# Altium footprint library JST-XH.PcbLib: 31 footprints (part 1 of 2)
Each footprint in its own frame and in the unit in brackets; x right, y up, seen from the top. Pads: shape width x height; smd on the part's side, far side on the other; paste and mask are expansions set on the pad; w line width, h text height; cw(c..) or ccw(c..) is an arc to the next point about the centre after c.
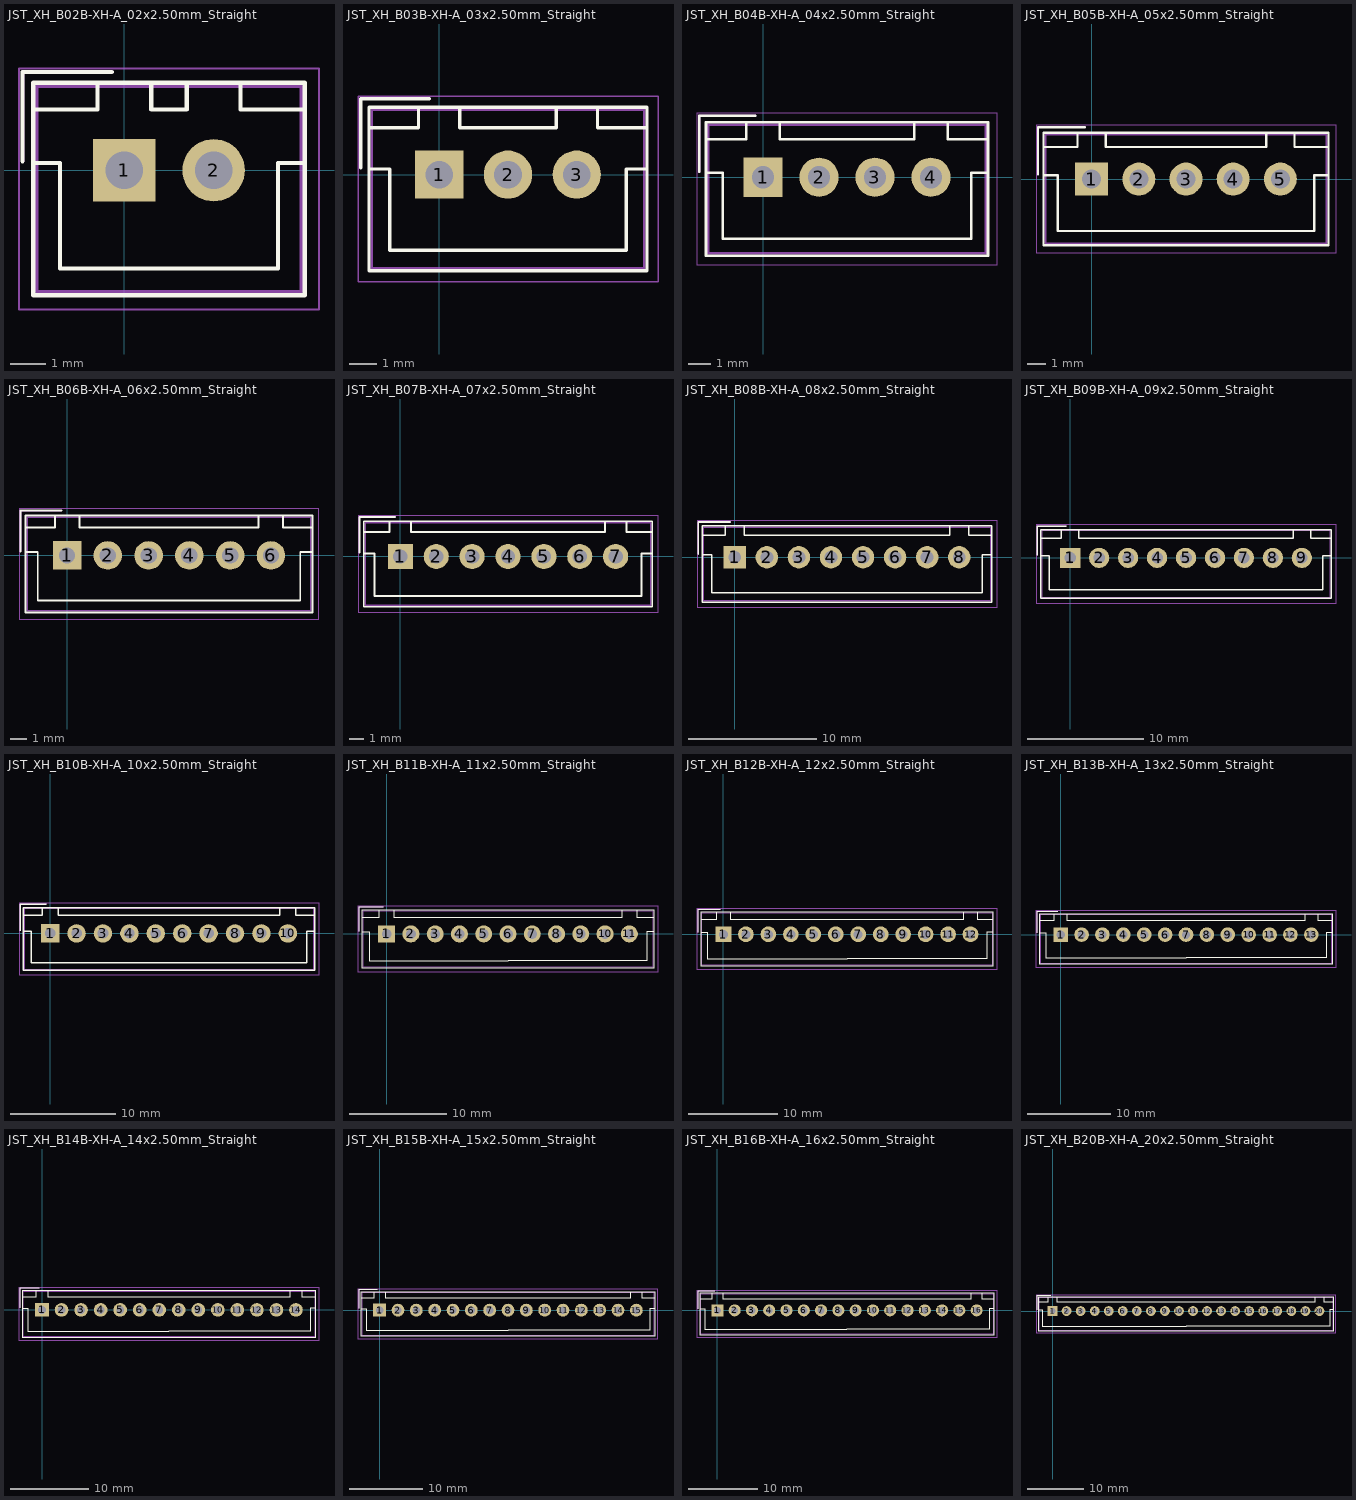
[diagram p0: the footprints below, top view; thin cyan lines are the x and y axes]

## JST_XH_B02B-XH-A_02x2.50mm_Straight [mm]
pads (2):
  rect 1.75x1.75 hole 1.05: 1(0,0)
  round 1.75 hole 1.05: 2(2.5,0)
F.SilkS:
  lines w0.12: -2.85,0.25 -2.85,2.75 -0.35,2.75 ; -2.55,0.2 -1.8,0.2 -1.8,-2.75 1.25,-2.75 4.3,-2.75 4.3,0.2 5.05,0.2 ; -2.55,2.45 -2.55,-3.5 5.05,-3.5 5.05,2.45 ; -2.55,2.45 5.05,2.45 ; -2.55,2.45 -2.55,1.7 -0.75,1.7 -0.75,2.45 -2.55,2.45 ; 5.05,2.45 5.05,1.7 3.25,1.7 3.25,2.45 5.05,2.45 ; 0.75,1.7 0.75,2.45 1.75,2.45 1.75,1.7 0.75,1.7
F.CrtYd:
  lines w0.05: -2.95,-3.9 -2.95,2.85 5.45,2.85 5.45,-3.9 -2.95,-3.9
F.Fab:
  lines w0.1: -2.85,0.25 -2.85,2.75 -0.35,2.75 ; -2.45,-3.4 -2.45,2.35 4.95,2.35 4.95,-3.4 -2.45,-3.4
  text "'.Designator'" at -0.189,-2.898 h1

## JST_XH_B03B-XH-A_03x2.50mm_Straight [mm]
pads (3):
  rect 1.75x1.75 hole 1: 1(0,0)
  round 1.75 hole 1: 2(2.5,0) 3(5,0)
F.SilkS:
  lines w0.12: -2.85,0.25 -2.85,2.75 -0.35,2.75 ; -2.55,0.2 -1.8,0.2 -1.8,-2.75 2.5,-2.75 6.8,-2.75 6.8,0.2 7.55,0.2 ; -2.55,2.45 -2.55,-3.5 7.55,-3.5 7.55,2.45 ; -2.55,2.45 7.55,2.45 ; -2.55,2.45 -2.55,1.7 -0.75,1.7 -0.75,2.45 -2.55,2.45 ; 7.55,2.45 7.55,1.7 5.75,1.7 5.75,2.45 7.55,2.45 ; 0.75,1.7 0.75,2.45 4.25,2.45 4.25,1.7 0.75,1.7
F.CrtYd:
  lines w0.05: -2.95,-3.9 -2.95,2.85 7.95,2.85 7.95,-3.9 -2.95,-3.9
F.Fab:
  lines w0.1: -2.85,0.25 -2.85,2.75 -0.35,2.75 ; -2.45,-3.4 -2.45,2.35 7.45,2.35 7.45,-3.4 -2.45,-3.4
  text "'.Designator'" at 1.061,-2.898 h1

## JST_XH_B04B-XH-A_04x2.50mm_Straight [mm]
pads (4):
  rect 1.75x1.75 hole 1: 1(0,0)
  round 1.75 hole 1: 2(2.5,0) 3(5,0) 4(7.5,0)
F.SilkS:
  lines w0.12: -2.85,0.25 -2.85,2.75 -0.35,2.75 ; -2.55,0.2 -1.8,0.2 -1.8,-2.75 3.75,-2.75 9.3,-2.75 9.3,0.2 10.05,0.2 ; -2.55,2.45 -2.55,-3.5 10.05,-3.5 10.05,2.45 ; -2.55,2.45 10.05,2.45 ; -2.55,2.45 -2.55,1.7 -0.75,1.7 -0.75,2.45 -2.55,2.45 ; 10.05,2.45 10.05,1.7 8.25,1.7 8.25,2.45 10.05,2.45 ; 0.75,1.7 0.75,2.45 6.75,2.45 6.75,1.7 0.75,1.7
F.CrtYd:
  lines w0.05: -2.95,-3.9 -2.95,2.85 10.45,2.85 10.45,-3.9 -2.95,-3.9
F.Fab:
  lines w0.1: -2.85,0.25 -2.85,2.75 -0.35,2.75 ; -2.45,-3.4 -2.45,2.35 9.95,2.35 9.95,-3.4 -2.45,-3.4
  text "'.Designator'" at 2.311,-2.898 h1

## JST_XH_B05B-XH-A_05x2.50mm_Straight [mm]
pads (5):
  rect 1.75x1.75 hole 1: 1(0,0)
  round 1.75 hole 1: 2(2.5,0) 3(5,0) 4(7.5,0) 5(10,0)
F.SilkS:
  lines w0.12: -2.85,0.25 -2.85,2.75 -0.35,2.75 ; -2.55,0.2 -1.8,0.2 -1.8,-2.75 5,-2.75 11.8,-2.75 11.8,0.2 12.55,0.2 ; -2.55,2.45 -2.55,-3.5 12.55,-3.5 12.55,2.45 ; -2.55,2.45 12.55,2.45 ; -2.55,2.45 -2.55,1.7 -0.75,1.7 -0.75,2.45 -2.55,2.45 ; 12.55,2.45 12.55,1.7 10.75,1.7 10.75,2.45 12.55,2.45 ; 0.75,1.7 0.75,2.45 9.25,2.45 9.25,1.7 0.75,1.7
F.CrtYd:
  lines w0.05: -2.95,-3.9 -2.95,2.85 12.95,2.85 12.95,-3.9 -2.95,-3.9
F.Fab:
  lines w0.1: -2.85,0.25 -2.85,2.75 -0.35,2.75 ; -2.45,-3.4 -2.45,2.35 12.45,2.35 12.45,-3.4 -2.45,-3.4
  text "'.Designator'" at 3.561,-2.898 h1

## JST_XH_B06B-XH-A_06x2.50mm_Straight [mm]
pads (6):
  rect 1.75x1.75 hole 1: 1(0,0)
  round 1.75 hole 1: 2(2.5,0) 3(5,0) 4(7.5,0) 5(10,0) 6(12.5,0)
F.SilkS:
  lines w0.12: -2.85,0.25 -2.85,2.75 -0.35,2.75 ; -2.55,0.2 -1.8,0.2 -1.8,-2.75 6.25,-2.75 14.3,-2.75 14.3,0.2 15.05,0.2 ; -2.55,2.45 -2.55,-3.5 15.05,-3.5 15.05,2.45 ; -2.55,2.45 15.05,2.45 ; -2.55,2.45 -2.55,1.7 -0.75,1.7 -0.75,2.45 -2.55,2.45 ; 15.05,2.45 15.05,1.7 13.25,1.7 13.25,2.45 15.05,2.45 ; 0.75,1.7 0.75,2.45 11.75,2.45 11.75,1.7 0.75,1.7
F.CrtYd:
  lines w0.05: -2.95,-3.9 -2.95,2.85 15.45,2.85 15.45,-3.9 -2.95,-3.9
F.Fab:
  lines w0.1: -2.85,0.25 -2.85,2.75 -0.35,2.75 ; -2.45,-3.4 -2.45,2.35 14.95,2.35 14.95,-3.4 -2.45,-3.4
  text "'.Designator'" at 4.811,-2.898 h1

## JST_XH_B07B-XH-A_07x2.50mm_Straight [mm]
pads (7):
  rect 1.75x1.75 hole 1: 1(0,0)
  round 1.75 hole 1: 2(2.5,0) 3(5,0) 4(7.5,0) 5(10,0) 6(12.5,0) 7(15,0)
F.SilkS:
  lines w0.12: -2.85,0.25 -2.85,2.75 -0.35,2.75 ; -2.55,0.2 -1.8,0.2 -1.8,-2.75 7.5,-2.75 16.8,-2.75 16.8,0.2 17.55,0.2 ; -2.55,2.45 -2.55,-3.5 17.55,-3.5 17.55,2.45 ; -2.55,2.45 17.55,2.45 ; -2.55,2.45 -2.55,1.7 -0.75,1.7 -0.75,2.45 -2.55,2.45 ; 17.55,2.45 17.55,1.7 15.75,1.7 15.75,2.45 17.55,2.45 ; 0.75,1.7 0.75,2.45 14.25,2.45 14.25,1.7 0.75,1.7
F.CrtYd:
  lines w0.05: -2.95,-3.9 -2.95,2.85 17.95,2.85 17.95,-3.9 -2.95,-3.9
F.Fab:
  lines w0.1: -2.85,0.25 -2.85,2.75 -0.35,2.75 ; -2.45,-3.4 -2.45,2.35 17.45,2.35 17.45,-3.4 -2.45,-3.4
  text "'.Designator'" at 6.061,-2.898 h1

## JST_XH_B08B-XH-A_08x2.50mm_Straight [mm]
pads (8):
  rect 1.75x1.75 hole 1: 1(0,0)
  round 1.75 hole 1: 2(2.5,0) 3(5,0) 4(7.5,0) 5(10,0) 6(12.5,0) 7(15,0) 8(17.5,0)
F.SilkS:
  lines w0.12: -2.85,0.25 -2.85,2.75 -0.35,2.75 ; -2.55,0.2 -1.8,0.2 -1.8,-2.75 8.75,-2.75 19.3,-2.75 19.3,0.2 20.05,0.2 ; -2.55,2.45 -2.55,-3.5 20.05,-3.5 20.05,2.45 ; -2.55,2.45 20.05,2.45 ; -2.55,2.45 -2.55,1.7 -0.75,1.7 -0.75,2.45 -2.55,2.45 ; 20.05,2.45 20.05,1.7 18.25,1.7 18.25,2.45 20.05,2.45 ; 0.75,1.7 0.75,2.45 16.75,2.45 16.75,1.7 0.75,1.7
F.CrtYd:
  lines w0.05: -2.95,-3.9 -2.95,2.85 20.45,2.85 20.45,-3.9 -2.95,-3.9
F.Fab:
  lines w0.1: -2.85,0.25 -2.85,2.75 -0.35,2.75 ; -2.45,-3.4 -2.45,2.35 19.95,2.35 19.95,-3.4 -2.45,-3.4
  text "'.Designator'" at 7.311,-2.898 h1

## JST_XH_B09B-XH-A_09x2.50mm_Straight [mm]
pads (9):
  rect 1.75x1.75 hole 1: 1(0,0)
  round 1.75 hole 1: 2(2.5,0) 3(5,0) 4(7.5,0) 5(10,0) 6(12.5,0) 7(15,0) 8(17.5,0) 9(20,0)
F.SilkS:
  lines w0.12: -2.85,0.25 -2.85,2.75 -0.35,2.75 ; -2.55,0.2 -1.8,0.2 -1.8,-2.75 10,-2.75 21.8,-2.75 21.8,0.2 22.55,0.2 ; -2.55,2.45 -2.55,-3.5 22.55,-3.5 22.55,2.45 ; -2.55,2.45 22.55,2.45 ; -2.55,2.45 -2.55,1.7 -0.75,1.7 -0.75,2.45 -2.55,2.45 ; 22.55,2.45 22.55,1.7 20.75,1.7 20.75,2.45 22.55,2.45 ; 0.75,1.7 0.75,2.45 19.25,2.45 19.25,1.7 0.75,1.7
F.CrtYd:
  lines w0.05: -2.95,-3.9 -2.95,2.85 22.95,2.85 22.95,-3.9 -2.95,-3.9
F.Fab:
  lines w0.1: -2.85,0.25 -2.85,2.75 -0.35,2.75 ; -2.45,-3.4 -2.45,2.35 22.45,2.35 22.45,-3.4 -2.45,-3.4
  text "'.Designator'" at 8.561,-2.898 h1

## JST_XH_B10B-XH-A_10x2.50mm_Straight [mm]
pads (10):
  rect 1.75x1.75 hole 1: 1(0,0)
  round 1.75 hole 1: 2(2.5,0) 3(5,0) 4(7.5,0) 5(10,0) 6(12.5,0) 7(15,0) 8(17.5,0) 9(20,0) 10(22.5,0)
F.SilkS:
  lines w0.12: -2.85,0.25 -2.85,2.75 -0.35,2.75 ; -2.55,0.2 -1.8,0.2 -1.8,-2.75 11.25,-2.75 24.3,-2.75 24.3,0.2 25.05,0.2 ; -2.55,2.45 -2.55,-3.5 25.05,-3.5 25.05,2.45 ; -2.55,2.45 25.05,2.45 ; -2.55,2.45 -2.55,1.7 -0.75,1.7 -0.75,2.45 -2.55,2.45 ; 25.05,2.45 25.05,1.7 23.25,1.7 23.25,2.45 25.05,2.45 ; 0.75,1.7 0.75,2.45 21.75,2.45 21.75,1.7 0.75,1.7
F.CrtYd:
  lines w0.05: -2.95,-3.9 -2.95,2.85 25.45,2.85 25.45,-3.9 -2.95,-3.9
F.Fab:
  lines w0.1: -2.85,0.25 -2.85,2.75 -0.35,2.75 ; -2.45,-3.4 -2.45,2.35 24.95,2.35 24.95,-3.4 -2.45,-3.4
  text "'.Designator'" at 9.811,-2.898 h1

## JST_XH_B11B-XH-A_11x2.50mm_Straight [mm]
pads (11):
  rect 1.75x1.75 hole 1: 1(0,0)
  round 1.75 hole 1: 2(2.5,0) 3(5,0) 4(7.5,0) 5(10,0) 6(12.5,0) 7(15,0) 8(17.5,0) 9(20,0) 10(22.5,0) 11(25,0)
F.SilkS:
  lines w0.12: -2.85,0.25 -2.85,2.75 -0.35,2.75 ; -2.55,0.2 -1.8,0.2 -1.8,-2.75 12.5,-2.75 26.8,-2.75 26.8,0.2 27.55,0.2 ; -2.55,2.45 -2.55,-3.5 27.55,-3.5 27.55,2.45 ; -2.55,2.45 27.55,2.45 ; -2.55,2.45 -2.55,1.7 -0.75,1.7 -0.75,2.45 -2.55,2.45 ; 27.55,2.45 27.55,1.7 25.75,1.7 25.75,2.45 27.55,2.45 ; 0.75,1.7 0.75,2.45 24.25,2.45 24.25,1.7 0.75,1.7
F.CrtYd:
  lines w0.05: -2.95,-3.9 -2.95,2.85 27.95,2.85 27.95,-3.9 -2.95,-3.9
F.Fab:
  lines w0.1: -2.85,0.25 -2.85,2.75 -0.35,2.75 ; -2.45,-3.4 -2.45,2.35 27.45,2.35 27.45,-3.4 -2.45,-3.4
  text "'.Designator'" at 11.061,-2.898 h1

## JST_XH_B12B-XH-A_12x2.50mm_Straight [mm]
pads (12):
  rect 1.75x1.75 hole 1: 1(0,0)
  round 1.75 hole 1: 2(2.5,0) 3(5,0) 4(7.5,0) 5(10,0) 6(12.5,0) 7(15,0) 8(17.5,0) 9(20,0) 10(22.5,0) 11(25,0) 12(27.5,0)
F.SilkS:
  lines w0.12: -2.85,0.25 -2.85,2.75 -0.35,2.75 ; -2.55,0.2 -1.8,0.2 -1.8,-2.75 13.75,-2.75 29.3,-2.75 29.3,0.2 30.05,0.2 ; -2.55,2.45 -2.55,-3.5 30.05,-3.5 30.05,2.45 ; -2.55,2.45 30.05,2.45 ; -2.55,2.45 -2.55,1.7 -0.75,1.7 -0.75,2.45 -2.55,2.45 ; 30.05,2.45 30.05,1.7 28.25,1.7 28.25,2.45 30.05,2.45 ; 0.75,1.7 0.75,2.45 26.75,2.45 26.75,1.7 0.75,1.7
F.CrtYd:
  lines w0.05: -2.95,-3.9 -2.95,2.85 30.45,2.85 30.45,-3.9 -2.95,-3.9
F.Fab:
  lines w0.1: -2.85,0.25 -2.85,2.75 -0.35,2.75 ; -2.45,-3.4 -2.45,2.35 29.95,2.35 29.95,-3.4 -2.45,-3.4
  text "'.Designator'" at 12.311,-2.898 h1

## JST_XH_B13B-XH-A_13x2.50mm_Straight [mm]
pads (13):
  rect 1.75x1.75 hole 1: 1(0,0)
  round 1.75 hole 1: 2(2.5,0) 3(5,0) 4(7.5,0) 5(10,0) 6(12.5,0) 7(15,0) 8(17.5,0) 9(20,0) 10(22.5,0) 11(25,0) 12(27.5,0) 13(30,0)
F.SilkS:
  lines w0.12: -2.85,0.25 -2.85,2.75 -0.35,2.75 ; -2.55,0.2 -1.8,0.2 -1.8,-2.75 15,-2.75 31.8,-2.75 31.8,0.2 32.55,0.2 ; -2.55,2.45 -2.55,-3.5 32.55,-3.5 32.55,2.45 ; -2.55,2.45 32.55,2.45 ; -2.55,2.45 -2.55,1.7 -0.75,1.7 -0.75,2.45 -2.55,2.45 ; 32.55,2.45 32.55,1.7 30.75,1.7 30.75,2.45 32.55,2.45 ; 0.75,1.7 0.75,2.45 29.25,2.45 29.25,1.7 0.75,1.7
F.CrtYd:
  lines w0.05: -2.95,-3.9 -2.95,2.85 32.95,2.85 32.95,-3.9 -2.95,-3.9
F.Fab:
  lines w0.1: -2.85,0.25 -2.85,2.75 -0.35,2.75 ; -2.45,-3.4 -2.45,2.35 32.45,2.35 32.45,-3.4 -2.45,-3.4
  text "'.Designator'" at 13.561,-2.898 h1

## JST_XH_B14B-XH-A_14x2.50mm_Straight [mm]
pads (14):
  rect 1.75x1.75 hole 1: 1(0,0)
  round 1.75 hole 1: 2(2.5,0) 3(5,0) 4(7.5,0) 5(10,0) 6(12.5,0) 7(15,0) 8(17.5,0) 9(20,0) 10(22.5,0) 11(25,0) 12(27.5,0) 13(30,0) 14(32.5,0)
F.SilkS:
  lines w0.12: -2.85,0.25 -2.85,2.75 -0.35,2.75 ; -2.55,0.2 -1.8,0.2 -1.8,-2.75 16.25,-2.75 34.3,-2.75 34.3,0.2 35.05,0.2 ; -2.55,2.45 -2.55,-3.5 35.05,-3.5 35.05,2.45 ; -2.55,2.45 35.05,2.45 ; -2.55,2.45 -2.55,1.7 -0.75,1.7 -0.75,2.45 -2.55,2.45 ; 35.05,2.45 35.05,1.7 33.25,1.7 33.25,2.45 35.05,2.45 ; 0.75,1.7 0.75,2.45 31.75,2.45 31.75,1.7 0.75,1.7
F.CrtYd:
  lines w0.05: -2.95,-3.9 -2.95,2.85 35.45,2.85 35.45,-3.9 -2.95,-3.9
F.Fab:
  lines w0.1: -2.85,0.25 -2.85,2.75 -0.35,2.75 ; -2.45,-3.4 -2.45,2.35 34.95,2.35 34.95,-3.4 -2.45,-3.4
  text "'.Designator'" at 14.811,-2.898 h1

## JST_XH_B15B-XH-A_15x2.50mm_Straight [mm]
pads (15):
  rect 1.75x1.75 hole 1: 1(0,0)
  round 1.75 hole 1: 2(2.5,0) 3(5,0) 4(7.5,0) 5(10,0) 6(12.5,0) 7(15,0) 8(17.5,0) 9(20,0) 10(22.5,0) 11(25,0) 12(27.5,0) 13(30,0) 14(32.5,0) 15(35,0)
F.SilkS:
  lines w0.12: -2.85,0.25 -2.85,2.75 -0.35,2.75 ; -2.55,0.2 -1.8,0.2 -1.8,-2.75 17.5,-2.75 36.8,-2.75 36.8,0.2 37.55,0.2 ; -2.55,2.45 -2.55,-3.5 37.55,-3.5 37.55,2.45 ; -2.55,2.45 37.55,2.45 ; -2.55,2.45 -2.55,1.7 -0.75,1.7 -0.75,2.45 -2.55,2.45 ; 37.55,2.45 37.55,1.7 35.75,1.7 35.75,2.45 37.55,2.45 ; 0.75,1.7 0.75,2.45 34.25,2.45 34.25,1.7 0.75,1.7
F.CrtYd:
  lines w0.05: -2.95,-3.9 -2.95,2.85 37.95,2.85 37.95,-3.9 -2.95,-3.9
F.Fab:
  lines w0.1: -2.85,0.25 -2.85,2.75 -0.35,2.75 ; -2.45,-3.4 -2.45,2.35 37.45,2.35 37.45,-3.4 -2.45,-3.4
  text "'.Designator'" at 16.061,-2.898 h1

## JST_XH_B16B-XH-A_16x2.50mm_Straight [mm]
pads (16):
  rect 1.75x1.75 hole 1: 1(0,0)
  round 1.75 hole 1: 2(2.5,0) 3(5,0) 4(7.5,0) 5(10,0) 6(12.5,0) 7(15,0) 8(17.5,0) 9(20,0) 10(22.5,0) 11(25,0) 12(27.5,0) 13(30,0) 14(32.5,0) 15(35,0) 16(37.5,0)
F.SilkS:
  lines w0.12: -2.85,0.25 -2.85,2.75 -0.35,2.75 ; -2.55,0.2 -1.8,0.2 -1.8,-2.75 18.75,-2.75 39.3,-2.75 39.3,0.2 40.05,0.2 ; -2.55,2.45 -2.55,-3.5 40.05,-3.5 40.05,2.45 ; -2.55,2.45 40.05,2.45 ; -2.55,2.45 -2.55,1.7 -0.75,1.7 -0.75,2.45 -2.55,2.45 ; 40.05,2.45 40.05,1.7 38.25,1.7 38.25,2.45 40.05,2.45 ; 0.75,1.7 0.75,2.45 36.75,2.45 36.75,1.7 0.75,1.7
F.CrtYd:
  lines w0.05: -2.95,-3.9 -2.95,2.85 40.45,2.85 40.45,-3.9 -2.95,-3.9
F.Fab:
  lines w0.1: -2.85,0.25 -2.85,2.75 -0.35,2.75 ; -2.45,-3.4 -2.45,2.35 39.95,2.35 39.95,-3.4 -2.45,-3.4
  text "'.Designator'" at 17.311,-2.898 h1

## JST_XH_B20B-XH-A_20x2.50mm_Straight [mm]
pads (20):
  rect 1.75x1.75 hole 1: 1(0,0)
  round 1.75 hole 1: 2(2.5,0) 3(5,0) 4(7.5,0) 5(10,0) 6(12.5,0) 7(15,0) 8(17.5,0) 9(20,0) 10(22.5,0) 11(25,0) 12(27.5,0) 13(30,0) 14(32.5,0) 15(35,0) 16(37.5,0) 17(40,0) 18(42.5,0) 19(45,0) 20(47.5,0)
F.SilkS:
  lines w0.12: -2.85,0.25 -2.85,2.75 -0.35,2.75 ; -2.55,0.2 -1.8,0.2 -1.8,-2.75 23.75,-2.75 49.3,-2.75 49.3,0.2 50.05,0.2 ; -2.55,2.45 -2.55,-3.5 50.05,-3.5 50.05,2.45 ; -2.55,2.45 50.05,2.45 ; -2.55,2.45 -2.55,1.7 -0.75,1.7 -0.75,2.45 -2.55,2.45 ; 50.05,2.45 50.05,1.7 48.25,1.7 48.25,2.45 50.05,2.45 ; 0.75,1.7 0.75,2.45 46.75,2.45 46.75,1.7 0.75,1.7
F.CrtYd:
  lines w0.05: -2.95,-3.9 -2.95,2.85 50.45,2.85 50.45,-3.9 -2.95,-3.9
F.Fab:
  lines w0.1: -2.85,0.25 -2.85,2.75 -0.35,2.75 ; -2.45,-3.4 -2.45,2.35 49.95,2.35 49.95,-3.4 -2.45,-3.4
  text "'.Designator'" at 22.311,-2.898 h1